# Altium footprint library SS34-E3&slash_57T.PcbLib: 3 footprints
Each footprint in its own frame and in the unit in brackets; x right, y up, seen from the top. Pads: shape width x height; smd on the part's side, far side on the other; paste and mask are expansions set on the pad; w line width, h text height; cw(c..) or ccw(c..) is an arc to the next point about the centre after c.
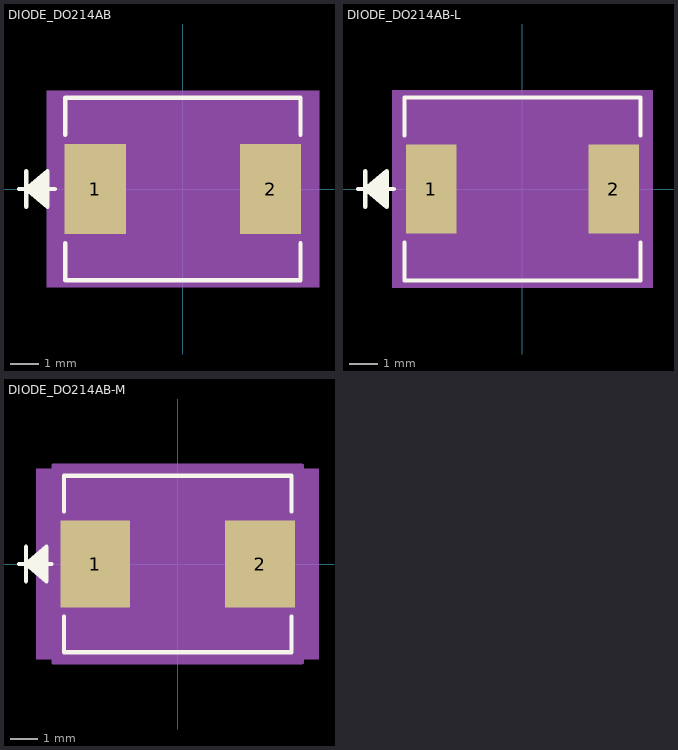
[diagram p0: the footprints below, top view; thin cyan lines are the x and y axes]

## DIODE_DO214AB [mil]
pads (2):
  rect 86x126 smd: 1(-123,0) 2(123,0)
Top Overlay:
  lines w6: -230,0 -180,0 ; -220,-25 -220,25 ; -190,-20 -220,0 ; -190,-15 -220,0 ; -190,-10 -220,0 ; -190,-5 -220,0 ; -190,5 -220,0 ; -190,10 -220,0 ; -190,15 -220,0 ; -190,20 -220,0 ; -165,-76.1 -165,-128 165,-128 165,-76.1 ; -165,76.1 -165,128 165,128 165,76.1 ; -220,0 -190,-25 -190,25 -220,0
Mechanical 5:
  region: 191,-138 -191,-138 -191,138 191,138
Mechanical 13:
  lines w1: -230,0 -180,0 ; -220,-25 -220,25 ; -190,-20 -220,0 ; -190,-15 -220,0 ; -190,-10 -220,0 ; -190,-5 -220,0 ; -190,5 -220,0 ; -190,10 -220,0 ; -190,15 -220,0 ; -190,20 -220,0 ; -220,0 -190,-25 -190,25 -220,0 ; -160,-123 -160,123 160,123 160,-123 -160,-123
Mechanical 15:
  region: -170,-73 -176,-73 -176,73 -170,73 -170,133 170,133 170,73 176,73 176,-73 170,-73 170,-133 -170,-133
  lines w6: -176,-73 -170,-73 -170,-133 170,-133 170,-73 176,-73 176,73 170,73 170,133 -170,133 -170,73 -176,73 -176,-73
3D body "DIODE_DO214AB.step": height 105, standoff 0, extent -160,-122.99 160,122.99

## DIODE_DO214AB-L [mil]
pads (2):
  rect 71x124 smd paste+0 mask+0: 1(-127.5,0) 2(127.5,0)
Top Overlay:
  lines w6: -230,0 -180,0 ; -220,-25 -220,25 ; -190,-20 -220,0 ; -190,-15 -220,0 ; -190,-10 -220,0 ; -190,-5 -220,0 ; -190,5 -220,0 ; -190,10 -220,0 ; -190,15 -220,0 ; -190,20 -220,0 ; -165,-74.95 -165,-128 165,-128 165,-74.95 ; -165,74.95 -165,128 165,128 165,74.95 ; -220,0 -190,25 -190,-25 -220,0
Mechanical 5:
  region: 182,-138 -182,-138 -182,138 182,138
Mechanical 13:
  lines w1: -230,0 -180,0 ; -220,-25 -220,25 ; -190,-20 -220,0 ; -190,-15 -220,0 ; -190,-10 -220,0 ; -190,-5 -220,0 ; -190,5 -220,0 ; -190,10 -220,0 ; -190,15 -220,0 ; -190,20 -220,0 ; -220,0 -190,25 -190,-25 -220,0 ; -160,-123 160,-123 160,123 -160,123 -160,-123
Mechanical 15:
  region: -164,-67 -167,-67 -167,67 -164,67 -164,127 164,127 164,67 167,67 167,-67 164,-67 164,-127 -164,-127
  lines w6: -167,-67 -167,67 -164,67 -164,127 164,127 164,67 167,67 167,-67 164,-67 164,-127 -164,-127 -164,-67 -167,-67
3D body "DIODE_DO214AB.step": height 105, standoff 0, extent -160,-122.99 160,122.99

## DIODE_DO214AB-M [mil]
pads (2):
  rect 101x126 smd paste+0 mask+0: 1(-119.5,0) 2(119.5,0)
Top Overlay:
  lines w6: -230,0 -183.1,0 ; -220,-25 -220,25 ; -190,-20 -220,0 ; -190,-15 -220,0 ; -190,-10 -220,0 ; -190,-5 -220,0 ; -190,5 -220,0 ; -190,10 -220,0 ; -190,15 -220,0 ; -190,20 -220,0 ; -165,-76.1 -165,-128 165,-128 165,-76.1 ; -165,76.1 -165,128 165,128 165,76.1 ; -220,0 -190,25 -190,-25 -220,0
Mechanical 5:
  region: 205,-138 -205,-138 -205,138 205,138
Mechanical 13:
  lines w1: -230,0 -180,0 ; -220,-25 -220,25 ; -190,-20 -220,0 ; -190,-15 -220,0 ; -190,-10 -220,0 ; -190,-5 -220,0 ; -190,5 -220,0 ; -190,10 -220,0 ; -190,15 -220,0 ; -190,20 -220,0 ; -220,0 -190,25 -190,-25 -220,0 ; -160,-123 160,-123 160,123 -160,123 -160,-123
Mechanical 15:
  region: -180,-83 -190,-83 -190,83 -180,83 -180,143 180,143 180,83 190,83 190,-83 180,-83 180,-143 -180,-143
  lines w6: -190,-83 -190,83 -180,83 -180,143 180,143 180,83 190,83 190,-83 180,-83 180,-143 -180,-143 -180,-83 -190,-83
3D body "DIODE_DO214AB.step": height 105, standoff 0, extent -160,-122.99 160,122.99